# Altium integrated library Linear Technology PMIC-Switching Reg LT1074-LT8705.IntLib: 2252 symbols (part 43 of 124)
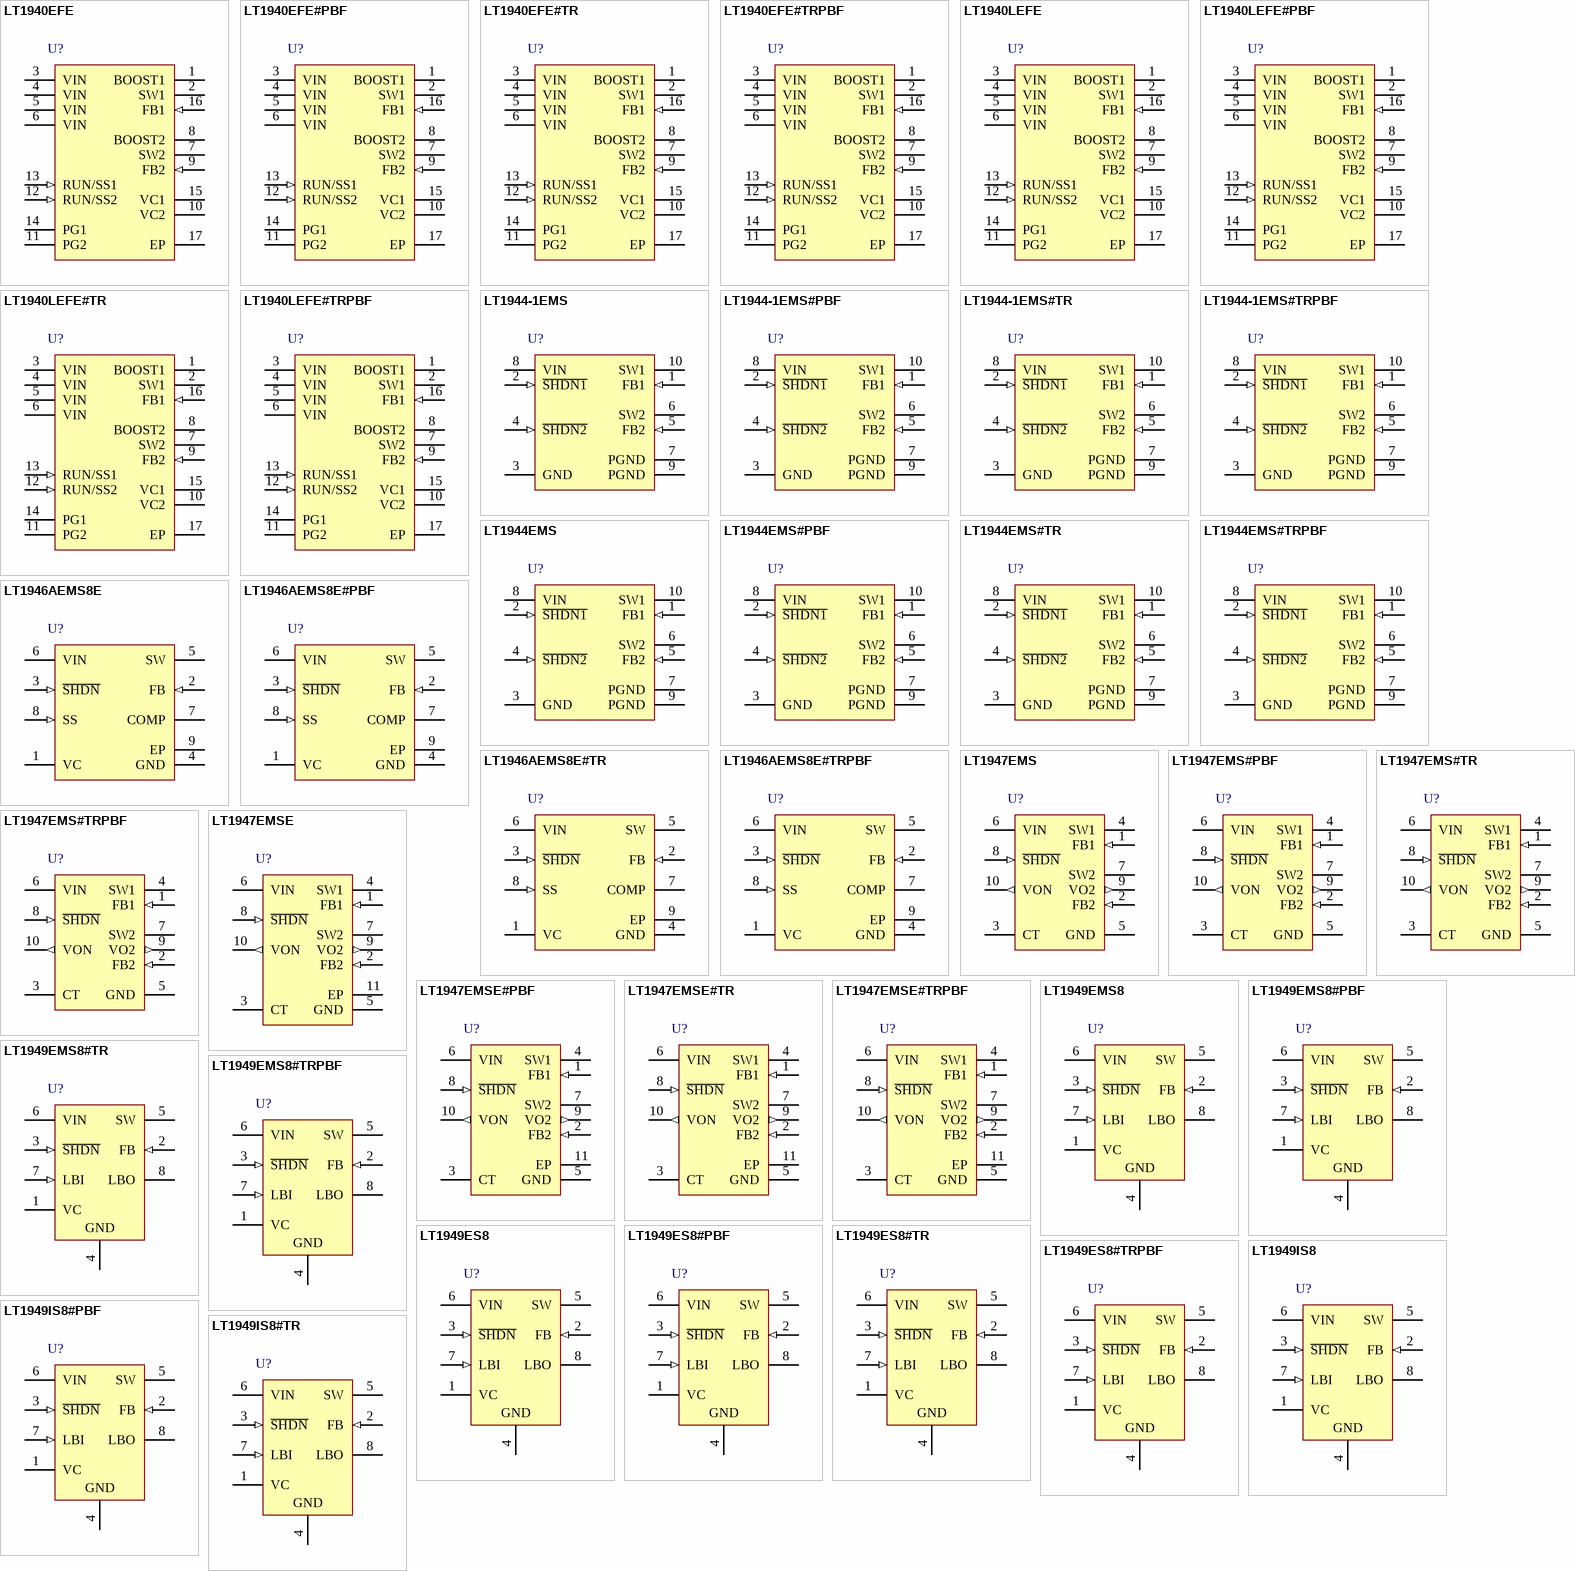
[diagram p113: symbols LT1940EFE to LT1949IS8#TR]

## LT1940EFE#TR
designator U?
Dual Monolithic 1.4 A, 1.1 MHz Step-Down Switching Regulator, 16-pin SOP (FE-16-EPV-BA), -40 to 85 degC, Tape and Reel; Manufacturer: Linear Technology; PartNumber: LT1940EFE#TR; Number of Outputs: 2; PackageReference: FE-16; PackageDescription: 16-Pin Plastic TSSOP, Body 5 x 4.4 mm, Pitch 0.65 mm; Supplier 1: Digi-Key; Supplier Part Number 1: LT1940EFE#TR-ND; RoHS: FALSE
footprint LT-FE-16-EPV-BA_N (SOP, 16-Leads, Body 5x4.4mm, Pitch 0.65mm, Thermal Pad 2.74x2.74mm, IPC Medium Density)
footprint LT-FE-16-EPV-BA_L (SOP, 16-Leads, Body 5x4.4mm, Pitch 0.65mm, Thermal Pad 2.74x2.74mm, IPC High Density)
footprint LT-FE-16-EPV-BA_M (SOP, 16-Leads, Body 5x4.4mm, Pitch 0.65mm, Thermal Pad 2.74x2.74mm, IPC Low Density)
pins: 1 BOOST1 "The BOOST pins are used to provide drive voltages, higher than the input voltage, to the internal bipolar NPN power switches.Tie through a diode from VOUT or from VIN.", 2 SW1 (power) "The SW pins are the outputs of the internal power switches. Connect these pins to the inductors, catch diodes and boost capacitors.", 3 VIN (power) "The VIN pins supply current to the LT1940’s internal regulator and to the internal power switches. These pins must be tied to the same source, and must be locally bypassed.", 4 VIN (power) "The VIN pins supply current to the LT1940’s internal regulator and to the internal power switches. These pins must be tied to the same source, and must be locally bypassed.", 5 VIN (power) "The VIN pins supply current to the LT1940’s internal regulator and to the internal power switches. These pins must be tied to the same source, and must be locally bypassed.", 6 VIN (power) "The VIN pins supply current to the LT1940’s internal regulator and to the internal power switches. These pins must be tied to the same source, and must be locally bypassed.", 7 SW2 (power) "The SW pins are the outputs of the internal power switches. Connect these pins to the inductors, catch diodes and boost capacitors.", 8 BOOST2 "The BOOST pins are used to provide drive voltages, higher than the input voltage, to the internal bipolar NPN power switches.Tie through a diode from VOUT or from VIN.", 9 FB2 (in) "The LT1940 regulates each feedback pin to 1.25V. Connect the feedback resistor divider taps to these pins.", 10 VC2 "The VC pins are the outputs of the internal error amps. The voltages on these pins control the peak switch currents. These pins are normally used to compensate the control loops, but can also be used to override the loops. (See Datasheet)", 11 PG2 (oc) "The Power Good pins are the open collector outputs of an internal comparator. PG remains low until the FB pin is within 10% of the final regulation voltage. As well as indicating output regulation, the PG pins can be used to (See Datasheet)", 12 RUN/SS2 (in) "The RUN/SS pins are use to shut down the individual switching regulators and the internal bias circuits. They also provide a soft-start function. To shut down either regulator, pull the RUN/SS pin to ground with an open (See Datasheet)", 13 RUN/SS1 (in) "The RUN/SS pins are use to shut down the individual switching regulators and the internal bias circuits. They also provide a soft-start function. To shut down either regulator, pull the RUN/SS pin to ground with an open (See Datasheet)", 14 PG1 (oc) "The Power Good pins are the open collector outputs of an internal comparator. PG remains low until the FB pin is within 10% of the final regulation voltage. As well as indicating output regulation, the PG pins can be used to (See Datasheet)", 15 VC1 "The VC pins are the outputs of the internal error amps. The voltages on these pins control the peak switch currents. These pins are normally used to compensate the control loops, but can also be used to override the loops. (See Datasheet)", 16 FB1 (in) "The LT1940 regulates each feedback pin to 1.25V. Connect the feedback resistor divider taps to these pins.", 17 EP (power) "The Exposed Pad of the package provides both electrical contact to ground and good thermal contact to the printed circuit board. The Exposed Pad must be soldered to the circuit board for proper operation."

## LT1940EFE#TRPBF
designator U?
Dual Monolithic 1.4 A, 1.1 MHz Step-Down Switching Regulator, 16-pin SOP (FE-16-EPV-BA), -40 to 85 degC, Pb-Free, Tape and Reel; Manufacturer: Linear Technology; PartNumber: LT1940EFE#TRPBF; Number of Outputs: 2; PackageReference: FE-16; PackageDescription: 16-Pin Plastic TSSOP, Body 5 x 4.4 mm, Pitch 0.65 mm; Supplier 1: Digi-Key; Supplier Part Number 1: LT1940EFE#TRPBF-ND; RoHS: TRUE
footprint LT-FE-16-EPV-BA_N (SOP, 16-Leads, Body 5x4.4mm, Pitch 0.65mm, Thermal Pad 2.74x2.74mm, IPC Medium Density)
footprint LT-FE-16-EPV-BA_L (SOP, 16-Leads, Body 5x4.4mm, Pitch 0.65mm, Thermal Pad 2.74x2.74mm, IPC High Density)
footprint LT-FE-16-EPV-BA_M (SOP, 16-Leads, Body 5x4.4mm, Pitch 0.65mm, Thermal Pad 2.74x2.74mm, IPC Low Density)
pins: 1 BOOST1 "The BOOST pins are used to provide drive voltages, higher than the input voltage, to the internal bipolar NPN power switches.Tie through a diode from VOUT or from VIN.", 2 SW1 (power) "The SW pins are the outputs of the internal power switches. Connect these pins to the inductors, catch diodes and boost capacitors.", 3 VIN (power) "The VIN pins supply current to the LT1940’s internal regulator and to the internal power switches. These pins must be tied to the same source, and must be locally bypassed.", 4 VIN (power) "The VIN pins supply current to the LT1940’s internal regulator and to the internal power switches. These pins must be tied to the same source, and must be locally bypassed.", 5 VIN (power) "The VIN pins supply current to the LT1940’s internal regulator and to the internal power switches. These pins must be tied to the same source, and must be locally bypassed.", 6 VIN (power) "The VIN pins supply current to the LT1940’s internal regulator and to the internal power switches. These pins must be tied to the same source, and must be locally bypassed.", 7 SW2 (power) "The SW pins are the outputs of the internal power switches. Connect these pins to the inductors, catch diodes and boost capacitors.", 8 BOOST2 "The BOOST pins are used to provide drive voltages, higher than the input voltage, to the internal bipolar NPN power switches.Tie through a diode from VOUT or from VIN.", 9 FB2 (in) "The LT1940 regulates each feedback pin to 1.25V. Connect the feedback resistor divider taps to these pins.", 10 VC2 "The VC pins are the outputs of the internal error amps. The voltages on these pins control the peak switch currents. These pins are normally used to compensate the control loops, but can also be used to override the loops. (See Datasheet)", 11 PG2 (oc) "The Power Good pins are the open collector outputs of an internal comparator. PG remains low until the FB pin is within 10% of the final regulation voltage. As well as indicating output regulation, the PG pins can be used to (See Datasheet)", 12 RUN/SS2 (in) "The RUN/SS pins are use to shut down the individual switching regulators and the internal bias circuits. They also provide a soft-start function. To shut down either regulator, pull the RUN/SS pin to ground with an open (See Datasheet)", 13 RUN/SS1 (in) "The RUN/SS pins are use to shut down the individual switching regulators and the internal bias circuits. They also provide a soft-start function. To shut down either regulator, pull the RUN/SS pin to ground with an open (See Datasheet)", 14 PG1 (oc) "The Power Good pins are the open collector outputs of an internal comparator. PG remains low until the FB pin is within 10% of the final regulation voltage. As well as indicating output regulation, the PG pins can be used to (See Datasheet)", 15 VC1 "The VC pins are the outputs of the internal error amps. The voltages on these pins control the peak switch currents. These pins are normally used to compensate the control loops, but can also be used to override the loops. (See Datasheet)", 16 FB1 (in) "The LT1940 regulates each feedback pin to 1.25V. Connect the feedback resistor divider taps to these pins.", 17 EP (power) "The Exposed Pad of the package provides both electrical contact to ground and good thermal contact to the printed circuit board. The Exposed Pad must be soldered to the circuit board for proper operation."

## LT1940LEFE
designator U?
Dual Monolithic 1.4 A, 1.1 MHz Step-Down Switching Regulator, 16-pin SOP (FE-16-EPV-BA), -40 to 85 degC; Manufacturer: Linear Technology; PartNumber: LT1940LEFE; Number of Outputs: 2; PackageReference: FE-16; PackageDescription: 16-Pin Plastic TSSOP, Body 5 x 4.4 mm, Pitch 0.65 mm; Supplier 1: Digi-Key; Supplier Part Number 1: LT1940LEFE-ND; RoHS: FALSE
footprint LT-FE-16-EPV-BA_N (SOP, 16-Leads, Body 5x4.4mm, Pitch 0.65mm, Thermal Pad 2.74x2.74mm, IPC Medium Density)
footprint LT-FE-16-EPV-BA_L (SOP, 16-Leads, Body 5x4.4mm, Pitch 0.65mm, Thermal Pad 2.74x2.74mm, IPC High Density)
footprint LT-FE-16-EPV-BA_M (SOP, 16-Leads, Body 5x4.4mm, Pitch 0.65mm, Thermal Pad 2.74x2.74mm, IPC Low Density)
pins: 1 BOOST1 "The BOOST pins are used to provide drive voltages, higher than the input voltage, to the internal bipolar NPN power switches.Tie through a diode from VOUT or from VIN.", 2 SW1 (power) "The SW pins are the outputs of the internal power switches. Connect these pins to the inductors, catch diodes and boost capacitors.", 3 VIN (power) "The VIN pins supply current to the LT1940’s internal regulator and to the internal power switches. These pins must be tied to the same source, and must be locally bypassed.", 4 VIN (power) "The VIN pins supply current to the LT1940’s internal regulator and to the internal power switches. These pins must be tied to the same source, and must be locally bypassed.", 5 VIN (power) "The VIN pins supply current to the LT1940’s internal regulator and to the internal power switches. These pins must be tied to the same source, and must be locally bypassed.", 6 VIN (power) "The VIN pins supply current to the LT1940’s internal regulator and to the internal power switches. These pins must be tied to the same source, and must be locally bypassed.", 7 SW2 (power) "The SW pins are the outputs of the internal power switches. Connect these pins to the inductors, catch diodes and boost capacitors.", 8 BOOST2 "The BOOST pins are used to provide drive voltages, higher than the input voltage, to the internal bipolar NPN power switches.Tie through a diode from VOUT or from VIN.", 9 FB2 (in) "The LT1940 regulates each feedback pin to 1.25V. Connect the feedback resistor divider taps to these pins.", 10 VC2 "The VC pins are the outputs of the internal error amps. The voltages on these pins control the peak switch currents. These pins are normally used to compensate the control loops, but can also be used to override the loops. (See Datasheet)", 11 PG2 (oc) "The Power Good pins are the open collector outputs of an internal comparator. PG remains low until the FB pin is within 10% of the final regulation voltage. As well as indicating output regulation, the PG pins can be used to (See Datasheet)", 12 RUN/SS2 (in) "The RUN/SS pins are use to shut down the individual switching regulators and the internal bias circuits. They also provide a soft-start function. To shut down either regulator, pull the RUN/SS pin to ground with an open (See Datasheet)", 13 RUN/SS1 (in) "The RUN/SS pins are use to shut down the individual switching regulators and the internal bias circuits. They also provide a soft-start function. To shut down either regulator, pull the RUN/SS pin to ground with an open (See Datasheet)", 14 PG1 (oc) "The Power Good pins are the open collector outputs of an internal comparator. PG remains low until the FB pin is within 10% of the final regulation voltage. As well as indicating output regulation, the PG pins can be used to (See Datasheet)", 15 VC1 "The VC pins are the outputs of the internal error amps. The voltages on these pins control the peak switch currents. These pins are normally used to compensate the control loops, but can also be used to override the loops. (See Datasheet)", 16 FB1 (in) "The LT1940 regulates each feedback pin to 1.25V. Connect the feedback resistor divider taps to these pins.", 17 EP (power) "The Exposed Pad of the package provides both electrical contact to ground and good thermal contact to the printed circuit board. The Exposed Pad must be soldered to the circuit board for proper operation."

## LT1940LEFE#PBF
designator U?
Dual Monolithic 1.4 A, 1.1 MHz Step-Down Switching Regulator, 16-pin SOP (FE-16-EPV-BA), -40 to 85 degC, Pb-Free; Manufacturer: Linear Technology; PartNumber: LT1940LEFE#PBF; Number of Outputs: 2; PackageReference: FE-16; PackageDescription: 16-Pin Plastic TSSOP, Body 5 x 4.4 mm, Pitch 0.65 mm; Supplier 1: Digi-Key; Supplier Part Number 1: LT1940LEFE#PBF-ND; RoHS: TRUE
footprint LT-FE-16-EPV-BA_N (SOP, 16-Leads, Body 5x4.4mm, Pitch 0.65mm, Thermal Pad 2.74x2.74mm, IPC Medium Density)
footprint LT-FE-16-EPV-BA_L (SOP, 16-Leads, Body 5x4.4mm, Pitch 0.65mm, Thermal Pad 2.74x2.74mm, IPC High Density)
footprint LT-FE-16-EPV-BA_M (SOP, 16-Leads, Body 5x4.4mm, Pitch 0.65mm, Thermal Pad 2.74x2.74mm, IPC Low Density)
pins: 1 BOOST1 "The BOOST pins are used to provide drive voltages, higher than the input voltage, to the internal bipolar NPN power switches.Tie through a diode from VOUT or from VIN.", 2 SW1 (power) "The SW pins are the outputs of the internal power switches. Connect these pins to the inductors, catch diodes and boost capacitors.", 3 VIN (power) "The VIN pins supply current to the LT1940’s internal regulator and to the internal power switches. These pins must be tied to the same source, and must be locally bypassed.", 4 VIN (power) "The VIN pins supply current to the LT1940’s internal regulator and to the internal power switches. These pins must be tied to the same source, and must be locally bypassed.", 5 VIN (power) "The VIN pins supply current to the LT1940’s internal regulator and to the internal power switches. These pins must be tied to the same source, and must be locally bypassed.", 6 VIN (power) "The VIN pins supply current to the LT1940’s internal regulator and to the internal power switches. These pins must be tied to the same source, and must be locally bypassed.", 7 SW2 (power) "The SW pins are the outputs of the internal power switches. Connect these pins to the inductors, catch diodes and boost capacitors.", 8 BOOST2 "The BOOST pins are used to provide drive voltages, higher than the input voltage, to the internal bipolar NPN power switches.Tie through a diode from VOUT or from VIN.", 9 FB2 (in) "The LT1940 regulates each feedback pin to 1.25V. Connect the feedback resistor divider taps to these pins.", 10 VC2 "The VC pins are the outputs of the internal error amps. The voltages on these pins control the peak switch currents. These pins are normally used to compensate the control loops, but can also be used to override the loops. (See Datasheet)", 11 PG2 (oc) "The Power Good pins are the open collector outputs of an internal comparator. PG remains low until the FB pin is within 10% of the final regulation voltage. As well as indicating output regulation, the PG pins can be used to (See Datasheet)", 12 RUN/SS2 (in) "The RUN/SS pins are use to shut down the individual switching regulators and the internal bias circuits. They also provide a soft-start function. To shut down either regulator, pull the RUN/SS pin to ground with an open (See Datasheet)", 13 RUN/SS1 (in) "The RUN/SS pins are use to shut down the individual switching regulators and the internal bias circuits. They also provide a soft-start function. To shut down either regulator, pull the RUN/SS pin to ground with an open (See Datasheet)", 14 PG1 (oc) "The Power Good pins are the open collector outputs of an internal comparator. PG remains low until the FB pin is within 10% of the final regulation voltage. As well as indicating output regulation, the PG pins can be used to (See Datasheet)", 15 VC1 "The VC pins are the outputs of the internal error amps. The voltages on these pins control the peak switch currents. These pins are normally used to compensate the control loops, but can also be used to override the loops. (See Datasheet)", 16 FB1 (in) "The LT1940 regulates each feedback pin to 1.25V. Connect the feedback resistor divider taps to these pins.", 17 EP (power) "The Exposed Pad of the package provides both electrical contact to ground and good thermal contact to the printed circuit board. The Exposed Pad must be soldered to the circuit board for proper operation."

## LT1940LEFE#TR
designator U?
Dual Monolithic 1.4 A, 1.1 MHz Step-Down Switching Regulator, 16-pin SOP (FE-16-EPV-BA), -40 to 85 degC, Tape and Reel; Manufacturer: Linear Technology; PartNumber: LT1940LEFE#TR; Number of Outputs: 2; PackageReference: FE-16; PackageDescription: 16-Pin Plastic TSSOP, Body 5 x 4.4 mm, Pitch 0.65 mm; Supplier 1: Digi-Key; Supplier Part Number 1: LT1940LEFE#TR-ND; RoHS: FALSE
footprint LT-FE-16-EPV-BA_N (SOP, 16-Leads, Body 5x4.4mm, Pitch 0.65mm, Thermal Pad 2.74x2.74mm, IPC Medium Density)
footprint LT-FE-16-EPV-BA_L (SOP, 16-Leads, Body 5x4.4mm, Pitch 0.65mm, Thermal Pad 2.74x2.74mm, IPC High Density)
footprint LT-FE-16-EPV-BA_M (SOP, 16-Leads, Body 5x4.4mm, Pitch 0.65mm, Thermal Pad 2.74x2.74mm, IPC Low Density)
pins: 1 BOOST1 "The BOOST pins are used to provide drive voltages, higher than the input voltage, to the internal bipolar NPN power switches.Tie through a diode from VOUT or from VIN.", 2 SW1 (power) "The SW pins are the outputs of the internal power switches. Connect these pins to the inductors, catch diodes and boost capacitors.", 3 VIN (power) "The VIN pins supply current to the LT1940’s internal regulator and to the internal power switches. These pins must be tied to the same source, and must be locally bypassed.", 4 VIN (power) "The VIN pins supply current to the LT1940’s internal regulator and to the internal power switches. These pins must be tied to the same source, and must be locally bypassed.", 5 VIN (power) "The VIN pins supply current to the LT1940’s internal regulator and to the internal power switches. These pins must be tied to the same source, and must be locally bypassed.", 6 VIN (power) "The VIN pins supply current to the LT1940’s internal regulator and to the internal power switches. These pins must be tied to the same source, and must be locally bypassed.", 7 SW2 (power) "The SW pins are the outputs of the internal power switches. Connect these pins to the inductors, catch diodes and boost capacitors.", 8 BOOST2 "The BOOST pins are used to provide drive voltages, higher than the input voltage, to the internal bipolar NPN power switches.Tie through a diode from VOUT or from VIN.", 9 FB2 (in) "The LT1940 regulates each feedback pin to 1.25V. Connect the feedback resistor divider taps to these pins.", 10 VC2 "The VC pins are the outputs of the internal error amps. The voltages on these pins control the peak switch currents. These pins are normally used to compensate the control loops, but can also be used to override the loops. (See Datasheet)", 11 PG2 (oc) "The Power Good pins are the open collector outputs of an internal comparator. PG remains low until the FB pin is within 10% of the final regulation voltage. As well as indicating output regulation, the PG pins can be used to (See Datasheet)", 12 RUN/SS2 (in) "The RUN/SS pins are use to shut down the individual switching regulators and the internal bias circuits. They also provide a soft-start function. To shut down either regulator, pull the RUN/SS pin to ground with an open (See Datasheet)", 13 RUN/SS1 (in) "The RUN/SS pins are use to shut down the individual switching regulators and the internal bias circuits. They also provide a soft-start function. To shut down either regulator, pull the RUN/SS pin to ground with an open (See Datasheet)", 14 PG1 (oc) "The Power Good pins are the open collector outputs of an internal comparator. PG remains low until the FB pin is within 10% of the final regulation voltage. As well as indicating output regulation, the PG pins can be used to (See Datasheet)", 15 VC1 "The VC pins are the outputs of the internal error amps. The voltages on these pins control the peak switch currents. These pins are normally used to compensate the control loops, but can also be used to override the loops. (See Datasheet)", 16 FB1 (in) "The LT1940 regulates each feedback pin to 1.25V. Connect the feedback resistor divider taps to these pins.", 17 EP (power) "The Exposed Pad of the package provides both electrical contact to ground and good thermal contact to the printed circuit board. The Exposed Pad must be soldered to the circuit board for proper operation."

## LT1940LEFE#TRPBF
designator U?
Dual Monolithic 1.4 A, 1.1 MHz Step-Down Switching Regulator, 16-pin SOP (FE-16-EPV-BA), -40 to 85 degC, Pb-Free, Tape and Reel; Manufacturer: Linear Technology; PartNumber: LT1940LEFE#TRPBF; Number of Outputs: 2; PackageReference: FE-16; PackageDescription: 16-Pin Plastic TSSOP, Body 5 x 4.4 mm, Pitch 0.65 mm; Supplier 1: Digi-Key; Supplier Part Number 1: LT1940LEFE#TRPBF-ND; RoHS: TRUE
footprint LT-FE-16-EPV-BA_N (SOP, 16-Leads, Body 5x4.4mm, Pitch 0.65mm, Thermal Pad 2.74x2.74mm, IPC Medium Density)
footprint LT-FE-16-EPV-BA_L (SOP, 16-Leads, Body 5x4.4mm, Pitch 0.65mm, Thermal Pad 2.74x2.74mm, IPC High Density)
footprint LT-FE-16-EPV-BA_M (SOP, 16-Leads, Body 5x4.4mm, Pitch 0.65mm, Thermal Pad 2.74x2.74mm, IPC Low Density)
pins: 1 BOOST1 "The BOOST pins are used to provide drive voltages, higher than the input voltage, to the internal bipolar NPN power switches.Tie through a diode from VOUT or from VIN.", 2 SW1 (power) "The SW pins are the outputs of the internal power switches. Connect these pins to the inductors, catch diodes and boost capacitors.", 3 VIN (power) "The VIN pins supply current to the LT1940’s internal regulator and to the internal power switches. These pins must be tied to the same source, and must be locally bypassed.", 4 VIN (power) "The VIN pins supply current to the LT1940’s internal regulator and to the internal power switches. These pins must be tied to the same source, and must be locally bypassed.", 5 VIN (power) "The VIN pins supply current to the LT1940’s internal regulator and to the internal power switches. These pins must be tied to the same source, and must be locally bypassed.", 6 VIN (power) "The VIN pins supply current to the LT1940’s internal regulator and to the internal power switches. These pins must be tied to the same source, and must be locally bypassed.", 7 SW2 (power) "The SW pins are the outputs of the internal power switches. Connect these pins to the inductors, catch diodes and boost capacitors.", 8 BOOST2 "The BOOST pins are used to provide drive voltages, higher than the input voltage, to the internal bipolar NPN power switches.Tie through a diode from VOUT or from VIN.", 9 FB2 (in) "The LT1940 regulates each feedback pin to 1.25V. Connect the feedback resistor divider taps to these pins.", 10 VC2 "The VC pins are the outputs of the internal error amps. The voltages on these pins control the peak switch currents. These pins are normally used to compensate the control loops, but can also be used to override the loops. (See Datasheet)", 11 PG2 (oc) "The Power Good pins are the open collector outputs of an internal comparator. PG remains low until the FB pin is within 10% of the final regulation voltage. As well as indicating output regulation, the PG pins can be used to (See Datasheet)", 12 RUN/SS2 (in) "The RUN/SS pins are use to shut down the individual switching regulators and the internal bias circuits. They also provide a soft-start function. To shut down either regulator, pull the RUN/SS pin to ground with an open (See Datasheet)", 13 RUN/SS1 (in) "The RUN/SS pins are use to shut down the individual switching regulators and the internal bias circuits. They also provide a soft-start function. To shut down either regulator, pull the RUN/SS pin to ground with an open (See Datasheet)", 14 PG1 (oc) "The Power Good pins are the open collector outputs of an internal comparator. PG remains low until the FB pin is within 10% of the final regulation voltage. As well as indicating output regulation, the PG pins can be used to (See Datasheet)", 15 VC1 "The VC pins are the outputs of the internal error amps. The voltages on these pins control the peak switch currents. These pins are normally used to compensate the control loops, but can also be used to override the loops. (See Datasheet)", 16 FB1 (in) "The LT1940 regulates each feedback pin to 1.25V. Connect the feedback resistor divider taps to these pins.", 17 EP (power) "The Exposed Pad of the package provides both electrical contact to ground and good thermal contact to the printed circuit board. The Exposed Pad must be soldered to the circuit board for proper operation."

## LT1944-1EMS
designator U?
350 mA and 150 mA Boost Converter, 10-pin SOP (MS-10), -40 to 85 degC; Manufacturer: Linear Technology; PartNumber: LT1944-1EMS; Number of Outputs: 2; PackageReference: MS-10; PackageDescription: 10-Pin Plastic MSOP, Body 3 x 3 mm, Pitch 0.5 mm; Supplier 1: Digi-Key; Supplier Part Number 1: LT1944-1EMS-ND; RoHS: FALSE
footprint LT-MS-10_N (SOP, 10-Leads, Body 3.1x3.1mm, Pitch 0.5mm, IPC Medium Density)
footprint LT-MS-10_L (SOP, 10-Leads, Body 3.1x3.1mm, Pitch 0.5mm, IPC High Density)
footprint LT-MS-10_M (SOP, 10-Leads, Body 3.1x3.1mm, Pitch 0.5mm, IPC Low Density)
pins: 1 FB1 (in) "Feedback Pin for Switcher 1. Set the output voltage by selecting values for R1 and R2.", 2 ~{SHDN1} (in) "Shutdown Pin for Switcher 1. Tie this pin to 0.9V or higher to enable device. Tie below 0.25V to turn it off.", 3 GND (power) "Ground. Tie this pin directly to the local ground plane.", 4 ~{SHDN2} (in) "Shutdown Pin for Switcher 2. Tie this pin to 0.9V or higher to enable device. Tie below 0.25V to turn it off.", 5 FB2 (in) "Feedback Pin for Switcher 2. Set the output voltage by selecting values for R1B and R2B.", 6 SW2 "Switch Pin for Switcher 2. This is the collector of the internal NPN power switch. Minimize the metal trace area connected to the pin to minimize EMI.", 7 PGND (power) "Power Ground. Tie these pins directly to the local ground plane. Both pins must be tied.", 8 VIN (power) "Input Supply Pin. Bypass this pin with a capacitor as close to the device as possible.", 9 PGND (power) "Power Ground. Tie these pins directly to the local ground plane. Both pins must be tied.", 10 SW1 "Switch Pin for Switcher 1. This is the collector of the internal NPN power switch. Minimize the metal trace area connected to the pin to minimize EMI."

## LT1944-1EMS#PBF
designator U?
350 mA and 150 mA Boost Converter, 10-pin SOP (MS-10), -40 to 85 degC, Pb-Free; Manufacturer: Linear Technology; PartNumber: LT1944-1EMS#PBF; Number of Outputs: 2; PackageReference: MS-10; PackageDescription: 10-Pin Plastic MSOP, Body 3 x 3 mm, Pitch 0.5 mm; Supplier 1: Digi-Key; Supplier Part Number 1: LT1944-1EMS#PBF-ND; RoHS: TRUE
footprint LT-MS-10_N (SOP, 10-Leads, Body 3.1x3.1mm, Pitch 0.5mm, IPC Medium Density)
footprint LT-MS-10_L (SOP, 10-Leads, Body 3.1x3.1mm, Pitch 0.5mm, IPC High Density)
footprint LT-MS-10_M (SOP, 10-Leads, Body 3.1x3.1mm, Pitch 0.5mm, IPC Low Density)
pins: 1 FB1 (in) "Feedback Pin for Switcher 1. Set the output voltage by selecting values for R1 and R2.", 2 ~{SHDN1} (in) "Shutdown Pin for Switcher 1. Tie this pin to 0.9V or higher to enable device. Tie below 0.25V to turn it off.", 3 GND (power) "Ground. Tie this pin directly to the local ground plane.", 4 ~{SHDN2} (in) "Shutdown Pin for Switcher 2. Tie this pin to 0.9V or higher to enable device. Tie below 0.25V to turn it off.", 5 FB2 (in) "Feedback Pin for Switcher 2. Set the output voltage by selecting values for R1B and R2B.", 6 SW2 "Switch Pin for Switcher 2. This is the collector of the internal NPN power switch. Minimize the metal trace area connected to the pin to minimize EMI.", 7 PGND (power) "Power Ground. Tie these pins directly to the local ground plane. Both pins must be tied.", 8 VIN (power) "Input Supply Pin. Bypass this pin with a capacitor as close to the device as possible.", 9 PGND (power) "Power Ground. Tie these pins directly to the local ground plane. Both pins must be tied.", 10 SW1 "Switch Pin for Switcher 1. This is the collector of the internal NPN power switch. Minimize the metal trace area connected to the pin to minimize EMI."

## LT1944-1EMS#TR
designator U?
350 mA and 150 mA Boost Converter, 10-pin SOP (MS-10), -40 to 85 degC, Tape and Reel; Manufacturer: Linear Technology; PartNumber: LT1944-1EMS#TR; Number of Outputs: 2; PackageReference: MS-10; PackageDescription: 10-Pin Plastic MSOP, Body 3 x 3 mm, Pitch 0.5 mm; Supplier 1: Digi-Key; Supplier Part Number 1: LT1944-1EMSTR-ND; RoHS: FALSE
footprint LT-MS-10_N (SOP, 10-Leads, Body 3.1x3.1mm, Pitch 0.5mm, IPC Medium Density)
footprint LT-MS-10_L (SOP, 10-Leads, Body 3.1x3.1mm, Pitch 0.5mm, IPC High Density)
footprint LT-MS-10_M (SOP, 10-Leads, Body 3.1x3.1mm, Pitch 0.5mm, IPC Low Density)
pins: 1 FB1 (in) "Feedback Pin for Switcher 1. Set the output voltage by selecting values for R1 and R2.", 2 ~{SHDN1} (in) "Shutdown Pin for Switcher 1. Tie this pin to 0.9V or higher to enable device. Tie below 0.25V to turn it off.", 3 GND (power) "Ground. Tie this pin directly to the local ground plane.", 4 ~{SHDN2} (in) "Shutdown Pin for Switcher 2. Tie this pin to 0.9V or higher to enable device. Tie below 0.25V to turn it off.", 5 FB2 (in) "Feedback Pin for Switcher 2. Set the output voltage by selecting values for R1B and R2B.", 6 SW2 "Switch Pin for Switcher 2. This is the collector of the internal NPN power switch. Minimize the metal trace area connected to the pin to minimize EMI.", 7 PGND (power) "Power Ground. Tie these pins directly to the local ground plane. Both pins must be tied.", 8 VIN (power) "Input Supply Pin. Bypass this pin with a capacitor as close to the device as possible.", 9 PGND (power) "Power Ground. Tie these pins directly to the local ground plane. Both pins must be tied.", 10 SW1 "Switch Pin for Switcher 1. This is the collector of the internal NPN power switch. Minimize the metal trace area connected to the pin to minimize EMI."

## LT1944-1EMS#TRPBF
designator U?
350 mA and 150 mA Boost Converter, 10-pin SOP (MS-10), -40 to 85 degC, Pb-Free, Tape and Reel; Manufacturer: Linear Technology; PartNumber: LT1944-1EMS#TRPBF; Number of Outputs: 2; PackageReference: MS-10; PackageDescription: 10-Pin Plastic MSOP, Body 3 x 3 mm, Pitch 0.5 mm; Supplier 1: Digi-Key; Supplier Part Number 1: LT1944-1EMS#TRPBF-ND; RoHS: TRUE
footprint LT-MS-10_N (SOP, 10-Leads, Body 3.1x3.1mm, Pitch 0.5mm, IPC Medium Density)
footprint LT-MS-10_L (SOP, 10-Leads, Body 3.1x3.1mm, Pitch 0.5mm, IPC High Density)
footprint LT-MS-10_M (SOP, 10-Leads, Body 3.1x3.1mm, Pitch 0.5mm, IPC Low Density)
pins: 1 FB1 (in) "Feedback Pin for Switcher 1. Set the output voltage by selecting values for R1 and R2.", 2 ~{SHDN1} (in) "Shutdown Pin for Switcher 1. Tie this pin to 0.9V or higher to enable device. Tie below 0.25V to turn it off.", 3 GND (power) "Ground. Tie this pin directly to the local ground plane.", 4 ~{SHDN2} (in) "Shutdown Pin for Switcher 2. Tie this pin to 0.9V or higher to enable device. Tie below 0.25V to turn it off.", 5 FB2 (in) "Feedback Pin for Switcher 2. Set the output voltage by selecting values for R1B and R2B.", 6 SW2 "Switch Pin for Switcher 2. This is the collector of the internal NPN power switch. Minimize the metal trace area connected to the pin to minimize EMI.", 7 PGND (power) "Power Ground. Tie these pins directly to the local ground plane. Both pins must be tied.", 8 VIN (power) "Input Supply Pin. Bypass this pin with a capacitor as close to the device as possible.", 9 PGND (power) "Power Ground. Tie these pins directly to the local ground plane. Both pins must be tied.", 10 SW1 "Switch Pin for Switcher 1. This is the collector of the internal NPN power switch. Minimize the metal trace area connected to the pin to minimize EMI."

## LT1944EMS
designator U?
Dual 350 mA Boost Converter, 10-pin SOP (MS-10), -40 to 85 degC; Manufacturer: Linear Technology; PartNumber: LT1944EMS; Number of Outputs: 2; PackageReference: MS-10; PackageDescription: 10-Pin Plastic MSOP, Body 3 x 3 mm, Pitch 0.5 mm; Supplier 1: Digi-Key; Supplier Part Number 1: LT1944EMS-ND; RoHS: FALSE
footprint LT-MS-10_N (SOP, 10-Leads, Body 3.1x3.1mm, Pitch 0.5mm, IPC Medium Density)
footprint LT-MS-10_L (SOP, 10-Leads, Body 3.1x3.1mm, Pitch 0.5mm, IPC High Density)
footprint LT-MS-10_M (SOP, 10-Leads, Body 3.1x3.1mm, Pitch 0.5mm, IPC Low Density)
pins: 1 FB1 (in) "Feedback Pin for Switcher 1. Set the output voltage by selecting values for R1 and R2.", 2 ~{SHDN1} (in) "Shutdown Pin for Switcher 1. Tie this pin to 0.9V or higher to enable device. Tie below 0.25V to turn it off.", 3 GND (power) "Ground. Tie this pin directly to the local ground plane.", 4 ~{SHDN2} (in) "Shutdown Pin for Switcher 2. Tie this pin to 0.9V or higher to enable device. Tie below 0.25V to turn it off.", 5 FB2 (in) "Feedback Pin for Switcher 2. Set the output voltage by selecting values for R1B and R2B.", 6 SW2 (power) "Switch Pin for Switcher 2. This is the collector of the internal NPN power switch. Minimize the metal trace area connected to the pin to minimize EMI.", 7 PGND (power) "Power Ground. Tie these pins directly to the local ground plane. Both pins must be tied.", 8 VIN (power) "Input Supply Pin. Bypass this pin with a capacitor as close to the device as possible.", 9 PGND (power) "Power Ground. Tie these pins directly to the local ground plane. Both pins must be tied.", 10 SW1 (power) "Switch Pin for Switcher 1. This is the collector of the internal NPN power switch. Minimize the metal trace area connected to the pin to minimize EMI."

## LT1944EMS#PBF
designator U?
Dual 350 mA Boost Converter, 10-pin SOP (MS-10), -40 to 85 degC, Pb-Free; Manufacturer: Linear Technology; PartNumber: LT1944EMS#PBF; Number of Outputs: 2; PackageReference: MS-10; PackageDescription: 10-Pin Plastic MSOP, Body 3 x 3 mm, Pitch 0.5 mm; Supplier 1: Digi-Key; Supplier Part Number 1: LT1944EMS#PBF-ND; RoHS: TRUE
footprint LT-MS-10_N (SOP, 10-Leads, Body 3.1x3.1mm, Pitch 0.5mm, IPC Medium Density)
footprint LT-MS-10_L (SOP, 10-Leads, Body 3.1x3.1mm, Pitch 0.5mm, IPC High Density)
footprint LT-MS-10_M (SOP, 10-Leads, Body 3.1x3.1mm, Pitch 0.5mm, IPC Low Density)
pins: 1 FB1 (in) "Feedback Pin for Switcher 1. Set the output voltage by selecting values for R1 and R2.", 2 ~{SHDN1} (in) "Shutdown Pin for Switcher 1. Tie this pin to 0.9V or higher to enable device. Tie below 0.25V to turn it off.", 3 GND (power) "Ground. Tie this pin directly to the local ground plane.", 4 ~{SHDN2} (in) "Shutdown Pin for Switcher 2. Tie this pin to 0.9V or higher to enable device. Tie below 0.25V to turn it off.", 5 FB2 (in) "Feedback Pin for Switcher 2. Set the output voltage by selecting values for R1B and R2B.", 6 SW2 (power) "Switch Pin for Switcher 2. This is the collector of the internal NPN power switch. Minimize the metal trace area connected to the pin to minimize EMI.", 7 PGND (power) "Power Ground. Tie these pins directly to the local ground plane. Both pins must be tied.", 8 VIN (power) "Input Supply Pin. Bypass this pin with a capacitor as close to the device as possible.", 9 PGND (power) "Power Ground. Tie these pins directly to the local ground plane. Both pins must be tied.", 10 SW1 (power) "Switch Pin for Switcher 1. This is the collector of the internal NPN power switch. Minimize the metal trace area connected to the pin to minimize EMI."

## LT1944EMS#TR
designator U?
Dual 350 mA Boost Converter, 10-pin SOP (MS-10), -40 to 85 degC, Tape and Reel; Manufacturer: Linear Technology; PartNumber: LT1944EMS#TR; Number of Outputs: 2; PackageReference: MS-10; PackageDescription: 10-Pin Plastic MSOP, Body 3 x 3 mm, Pitch 0.5 mm; Supplier 1: Digi-Key; Supplier Part Number 1: LT1944EMSTR-ND; RoHS: FALSE
footprint LT-MS-10_N (SOP, 10-Leads, Body 3.1x3.1mm, Pitch 0.5mm, IPC Medium Density)
footprint LT-MS-10_L (SOP, 10-Leads, Body 3.1x3.1mm, Pitch 0.5mm, IPC High Density)
footprint LT-MS-10_M (SOP, 10-Leads, Body 3.1x3.1mm, Pitch 0.5mm, IPC Low Density)
pins: 1 FB1 (in) "Feedback Pin for Switcher 1. Set the output voltage by selecting values for R1 and R2.", 2 ~{SHDN1} (in) "Shutdown Pin for Switcher 1. Tie this pin to 0.9V or higher to enable device. Tie below 0.25V to turn it off.", 3 GND (power) "Ground. Tie this pin directly to the local ground plane.", 4 ~{SHDN2} (in) "Shutdown Pin for Switcher 2. Tie this pin to 0.9V or higher to enable device. Tie below 0.25V to turn it off.", 5 FB2 (in) "Feedback Pin for Switcher 2. Set the output voltage by selecting values for R1B and R2B.", 6 SW2 (power) "Switch Pin for Switcher 2. This is the collector of the internal NPN power switch. Minimize the metal trace area connected to the pin to minimize EMI.", 7 PGND (power) "Power Ground. Tie these pins directly to the local ground plane. Both pins must be tied.", 8 VIN (power) "Input Supply Pin. Bypass this pin with a capacitor as close to the device as possible.", 9 PGND (power) "Power Ground. Tie these pins directly to the local ground plane. Both pins must be tied.", 10 SW1 (power) "Switch Pin for Switcher 1. This is the collector of the internal NPN power switch. Minimize the metal trace area connected to the pin to minimize EMI."

## LT1944EMS#TRPBF
designator U?
Dual 350 mA Boost Converter, 10-pin SOP (MS-10), -40 to 85 degC, Pb-Free, Tape and Reel; Manufacturer: Linear Technology; PartNumber: LT1944EMS#TRPBF; Number of Outputs: 2; PackageReference: MS-10; PackageDescription: 10-Pin Plastic MSOP, Body 3 x 3 mm, Pitch 0.5 mm; Supplier 1: Digi-Key; Supplier Part Number 1: LT1944EMS#TRPBF-ND; RoHS: TRUE
footprint LT-MS-10_N (SOP, 10-Leads, Body 3.1x3.1mm, Pitch 0.5mm, IPC Medium Density)
footprint LT-MS-10_L (SOP, 10-Leads, Body 3.1x3.1mm, Pitch 0.5mm, IPC High Density)
footprint LT-MS-10_M (SOP, 10-Leads, Body 3.1x3.1mm, Pitch 0.5mm, IPC Low Density)
pins: 1 FB1 (in) "Feedback Pin for Switcher 1. Set the output voltage by selecting values for R1 and R2.", 2 ~{SHDN1} (in) "Shutdown Pin for Switcher 1. Tie this pin to 0.9V or higher to enable device. Tie below 0.25V to turn it off.", 3 GND (power) "Ground. Tie this pin directly to the local ground plane.", 4 ~{SHDN2} (in) "Shutdown Pin for Switcher 2. Tie this pin to 0.9V or higher to enable device. Tie below 0.25V to turn it off.", 5 FB2 (in) "Feedback Pin for Switcher 2. Set the output voltage by selecting values for R1B and R2B.", 6 SW2 (power) "Switch Pin for Switcher 2. This is the collector of the internal NPN power switch. Minimize the metal trace area connected to the pin to minimize EMI.", 7 PGND (power) "Power Ground. Tie these pins directly to the local ground plane. Both pins must be tied.", 8 VIN (power) "Input Supply Pin. Bypass this pin with a capacitor as close to the device as possible.", 9 PGND (power) "Power Ground. Tie these pins directly to the local ground plane. Both pins must be tied.", 10 SW1 (power) "Switch Pin for Switcher 1. This is the collector of the internal NPN power switch. Minimize the metal trace area connected to the pin to minimize EMI."

## LT1946AEMS8E
designator U?
2.7 MHz Boost DC/DC Converter with 1.5 A Switch and Soft-Start, 8-pin SOP (MS8E-8), -40 to 85 degC; Manufacturer: Linear Technology; PartNumber: LT1946AEMS8E; Number of Outputs: 1; PackageReference: MS8E-8; PackageDescription: 8-Pin Plastic MSOP, Exposed Die Pad, Body 3 x 3 mm, Pitch 0.65 mm; Supplier 1: Digi-Key; Supplier Part Number 1: LT1946AEMS8E-ND; RoHS: FALSE
footprint LT-MS8E-8-2060X1830TP_N (SOP, 8-Leads, Body 3.1x3.1mm, Pitch 0.65mm, Thermal Pad 2.162x1.932mm, IPC Medium Density)
footprint LT-MS8E-8-2060X1830TP_L (SOP, 8-Leads, Body 3.1x3.1mm, Pitch 0.65mm, Thermal Pad 2.162x1.932mm, IPC High Density)
footprint LT-MS8E-8-2060X1830TP_M (SOP, 8-Leads, Body 3.1x3.1mm, Pitch 0.65mm, Thermal Pad 2.162x1.932mm, IPC Low Density)
pins: 1 VC "Error Amplifer Output Pin. Tie external compensation network to this pin, or use the internal compensation  network by shorting the VC pin to the COMP pin.", 2 FB (in) "Feedback Pin.", 3 ~{SHDN} (in) "Shutdown Pin. Ground to shut down. Do not foat this pin.", 4 GND (power) "Ground. Tie directly to local ground plane.", 5 SW (power) "Switch Pin. This is the collector of the internal  NPN power switch. Minimize the metal trace area connected  to this pin to minimize EMI.", 6 VIN (power) "Input Supply Pin. Must be locally bypassed.", 7 COMP "Internal Compensation Pin. Provides an internal compensation network. Tie directly to the VC pin for internal compensation. Tie to GND if not in use.", 8 SS (in) "Soft-Start Pin. Place a soft-start capacitor here.", 9 EP (power) "Ground."

## LT1946AEMS8E#PBF
designator U?
2.7 MHz Boost DC/DC Converter with 1.5 A Switch and Soft-Start, 8-pin SOP (MS8E-8), -40 to 85 degC, Pb-Free; Manufacturer: Linear Technology; PartNumber: LT1946AEMS8E#PBF; Number of Outputs: 1; PackageReference: MS8E-8; PackageDescription: 8-Pin Plastic MSOP, Exposed Die Pad, Body 3 x 3 mm, Pitch 0.65 mm; Supplier 1: Digi-Key; Supplier Part Number 1: LT1946AEMS8E#PBF-ND; RoHS: TRUE
footprint LT-MS8E-8-2060X1830TP_N (SOP, 8-Leads, Body 3.1x3.1mm, Pitch 0.65mm, Thermal Pad 2.162x1.932mm, IPC Medium Density)
footprint LT-MS8E-8-2060X1830TP_L (SOP, 8-Leads, Body 3.1x3.1mm, Pitch 0.65mm, Thermal Pad 2.162x1.932mm, IPC High Density)
footprint LT-MS8E-8-2060X1830TP_M (SOP, 8-Leads, Body 3.1x3.1mm, Pitch 0.65mm, Thermal Pad 2.162x1.932mm, IPC Low Density)
pins: 1 VC "Error Amplifer Output Pin. Tie external compensation network to this pin, or use the internal compensation  network by shorting the VC pin to the COMP pin.", 2 FB (in) "Feedback Pin.", 3 ~{SHDN} (in) "Shutdown Pin. Ground to shut down. Do not foat this pin.", 4 GND (power) "Ground. Tie directly to local ground plane.", 5 SW (power) "Switch Pin. This is the collector of the internal  NPN power switch. Minimize the metal trace area connected  to this pin to minimize EMI.", 6 VIN (power) "Input Supply Pin. Must be locally bypassed.", 7 COMP "Internal Compensation Pin. Provides an internal compensation network. Tie directly to the VC pin for internal compensation. Tie to GND if not in use.", 8 SS (in) "Soft-Start Pin. Place a soft-start capacitor here.", 9 EP (power) "Ground."

## LT1946AEMS8E#TR
designator U?
2.7 MHz Boost DC/DC Converter with 1.5 A Switch and Soft-Start, 8-pin SOP (MS8E-8), -40 to 85 degC, Tape and Reel; Manufacturer: Linear Technology; PartNumber: LT1946AEMS8E#TR; Number of Outputs: 1; PackageReference: MS8E-8; PackageDescription: 8-Pin Plastic MSOP, Exposed Die Pad, Body 3 x 3 mm, Pitch 0.65 mm; Supplier 1: Digi-Key; Supplier Part Number 1: LT1946AEMS8ETR-ND; RoHS: FALSE
footprint LT-MS8E-8-2060X1830TP_N (SOP, 8-Leads, Body 3.1x3.1mm, Pitch 0.65mm, Thermal Pad 2.162x1.932mm, IPC Medium Density)
footprint LT-MS8E-8-2060X1830TP_L (SOP, 8-Leads, Body 3.1x3.1mm, Pitch 0.65mm, Thermal Pad 2.162x1.932mm, IPC High Density)
footprint LT-MS8E-8-2060X1830TP_M (SOP, 8-Leads, Body 3.1x3.1mm, Pitch 0.65mm, Thermal Pad 2.162x1.932mm, IPC Low Density)
pins: 1 VC "Error Amplifer Output Pin. Tie external compensation network to this pin, or use the internal compensation  network by shorting the VC pin to the COMP pin.", 2 FB (in) "Feedback Pin.", 3 ~{SHDN} (in) "Shutdown Pin. Ground to shut down. Do not foat this pin.", 4 GND (power) "Ground. Tie directly to local ground plane.", 5 SW (power) "Switch Pin. This is the collector of the internal  NPN power switch. Minimize the metal trace area connected  to this pin to minimize EMI.", 6 VIN (power) "Input Supply Pin. Must be locally bypassed.", 7 COMP "Internal Compensation Pin. Provides an internal compensation network. Tie directly to the VC pin for internal compensation. Tie to GND if not in use.", 8 SS (in) "Soft-Start Pin. Place a soft-start capacitor here.", 9 EP (power) "Ground."

## LT1946AEMS8E#TRPBF
designator U?
2.7 MHz Boost DC/DC Converter with 1.5 A Switch and Soft-Start, 8-pin SOP (MS8E-8), -40 to 85 degC, Pb-Free, Tape and Reel; Manufacturer: Linear Technology; PartNumber: LT1946AEMS8E#TRPBF; Number of Outputs: 1; PackageReference: MS8E-8; PackageDescription: 8-Pin Plastic MSOP, Exposed Die Pad, Body 3 x 3 mm, Pitch 0.65 mm; Supplier 1: Digi-Key; Supplier Part Number 1: LT1946AEMS8E#TRPBF-ND; RoHS: TRUE
footprint LT-MS8E-8-2060X1830TP_N (SOP, 8-Leads, Body 3.1x3.1mm, Pitch 0.65mm, Thermal Pad 2.162x1.932mm, IPC Medium Density)
footprint LT-MS8E-8-2060X1830TP_L (SOP, 8-Leads, Body 3.1x3.1mm, Pitch 0.65mm, Thermal Pad 2.162x1.932mm, IPC High Density)
footprint LT-MS8E-8-2060X1830TP_M (SOP, 8-Leads, Body 3.1x3.1mm, Pitch 0.65mm, Thermal Pad 2.162x1.932mm, IPC Low Density)
pins: 1 VC "Error Amplifer Output Pin. Tie external compensation network to this pin, or use the internal compensation  network by shorting the VC pin to the COMP pin.", 2 FB (in) "Feedback Pin.", 3 ~{SHDN} (in) "Shutdown Pin. Ground to shut down. Do not foat this pin.", 4 GND (power) "Ground. Tie directly to local ground plane.", 5 SW (power) "Switch Pin. This is the collector of the internal  NPN power switch. Minimize the metal trace area connected  to this pin to minimize EMI.", 6 VIN (power) "Input Supply Pin. Must be locally bypassed.", 7 COMP "Internal Compensation Pin. Provides an internal compensation network. Tie directly to the VC pin for internal compensation. Tie to GND if not in use.", 8 SS (in) "Soft-Start Pin. Place a soft-start capacitor here.", 9 EP (power) "Ground."

## LT1947EMS
designator U?
Adjustable Output TFT-LCD Triple Switching Regulator MAX, 10-pin SOP (MS-10), -40 to 85 degC; Manufacturer: Linear Technology; PartNumber: LT1947EMS; Number of Outputs: 3; PackageReference: MS-10; PackageDescription: 10-Pin Plastic MSOP, Body 3 x 3 mm, Pitch 0.5 mm; Supplier 1: Digi-Key; Supplier Part Number 1: LT1947EMS-ND; RoHS: FALSE
footprint LT-MS-10_N (SOP, 10-Leads, Body 3.1x3.1mm, Pitch 0.5mm, IPC Medium Density)
footprint LT-MS-10_L (SOP, 10-Leads, Body 3.1x3.1mm, Pitch 0.5mm, IPC High Density)
footprint LT-MS-10_M (SOP, 10-Leads, Body 3.1x3.1mm, Pitch 0.5mm, IPC Low Density)
pins: 1 FB1 (in) "Feedback Pin for First Switcher. Connect resistor divider tap here. Set AVDD according to: AVDD = 1.26V(1 + R1/R2).", 2 FB2 (in) "Feedback Pin for Second Switcher. Connect resistor divider 2 here and set VON using: VON = 1.26V (1 + R3/R4) - 160mV", 3 CT "Timing Capacitor Pin. Connect a 10nF capacitor from CT to ground to program a 2.3ms delay from FB1 reaching 1.26V to VON turning on.", 4 SW1 (power) "AVDD Switch Node. Connect L1 and D1 here (see Figure 1). Minimize trace area at this pin to keep EMI down.", 5 GND (power) "Ground. Connect directly to local ground plane.", 6 VIN (power) "Input Supply Pin. Must be bypassed with a ceramic capacitor close to the pin.", 7 SW2 (power) "VO2 Switch Node. Connect L2 and D2 here. Minimize trace area at this pin to keep EMI down.", 8 ~{SHDN} (in) "Pull this pin low for shutdown mode. For normal operation, tie to a voltage between 2.4V and 8V.", 9 VO2 (out) "SW2 Output. This node is also internally connected to the emitter of Q3 (see Block Diagram), the high side switch between VO2 and VON.", 10 VON (out) "This is the delayed output for second Switcher. VON reaches its programmed voltage after the internal timer times out."

## LT1947EMS#PBF
designator U?
Adjustable Output TFT-LCD Triple Switching Regulator MAX, 10-pin SOP (MS-10), -40 to 85 degC, Pb-Free; Manufacturer: Linear Technology; PartNumber: LT1947EMS#PBF; Number of Outputs: 3; PackageReference: MS-10; PackageDescription: 10-Pin Plastic MSOP, Body 3 x 3 mm, Pitch 0.5 mm; Supplier 1: Digi-Key; Supplier Part Number 1: LT1947EMS#PBF-ND; RoHS: TRUE
footprint LT-MS-10_N (SOP, 10-Leads, Body 3.1x3.1mm, Pitch 0.5mm, IPC Medium Density)
footprint LT-MS-10_L (SOP, 10-Leads, Body 3.1x3.1mm, Pitch 0.5mm, IPC High Density)
footprint LT-MS-10_M (SOP, 10-Leads, Body 3.1x3.1mm, Pitch 0.5mm, IPC Low Density)
pins: 1 FB1 (in) "Feedback Pin for First Switcher. Connect resistor divider tap here. Set AVDD according to: AVDD = 1.26V(1 + R1/R2).", 2 FB2 (in) "Feedback Pin for Second Switcher. Connect resistor divider 2 here and set VON using: VON = 1.26V (1 + R3/R4) - 160mV", 3 CT "Timing Capacitor Pin. Connect a 10nF capacitor from CT to ground to program a 2.3ms delay from FB1 reaching 1.26V to VON turning on.", 4 SW1 (power) "AVDD Switch Node. Connect L1 and D1 here (see Figure 1). Minimize trace area at this pin to keep EMI down.", 5 GND (power) "Ground. Connect directly to local ground plane.", 6 VIN (power) "Input Supply Pin. Must be bypassed with a ceramic capacitor close to the pin.", 7 SW2 (power) "VO2 Switch Node. Connect L2 and D2 here. Minimize trace area at this pin to keep EMI down.", 8 ~{SHDN} (in) "Pull this pin low for shutdown mode. For normal operation, tie to a voltage between 2.4V and 8V.", 9 VO2 (out) "SW2 Output. This node is also internally connected to the emitter of Q3 (see Block Diagram), the high side switch between VO2 and VON.", 10 VON (out) "This is the delayed output for second Switcher. VON reaches its programmed voltage after the internal timer times out."